# Altium footprint library DC3-2.54mm简牛贴片插座.PcbLib: 24 footprints (part 2 of 2)
Each footprint in its own frame and in the unit in brackets; x right, y up, seen from the top. Pads: shape width x height; smd on the part's side, far side on the other; paste and mask are expansions set on the pad; w line width, h text height; cw(c..) or ccw(c..) is an arc to the next point about the centre after c.
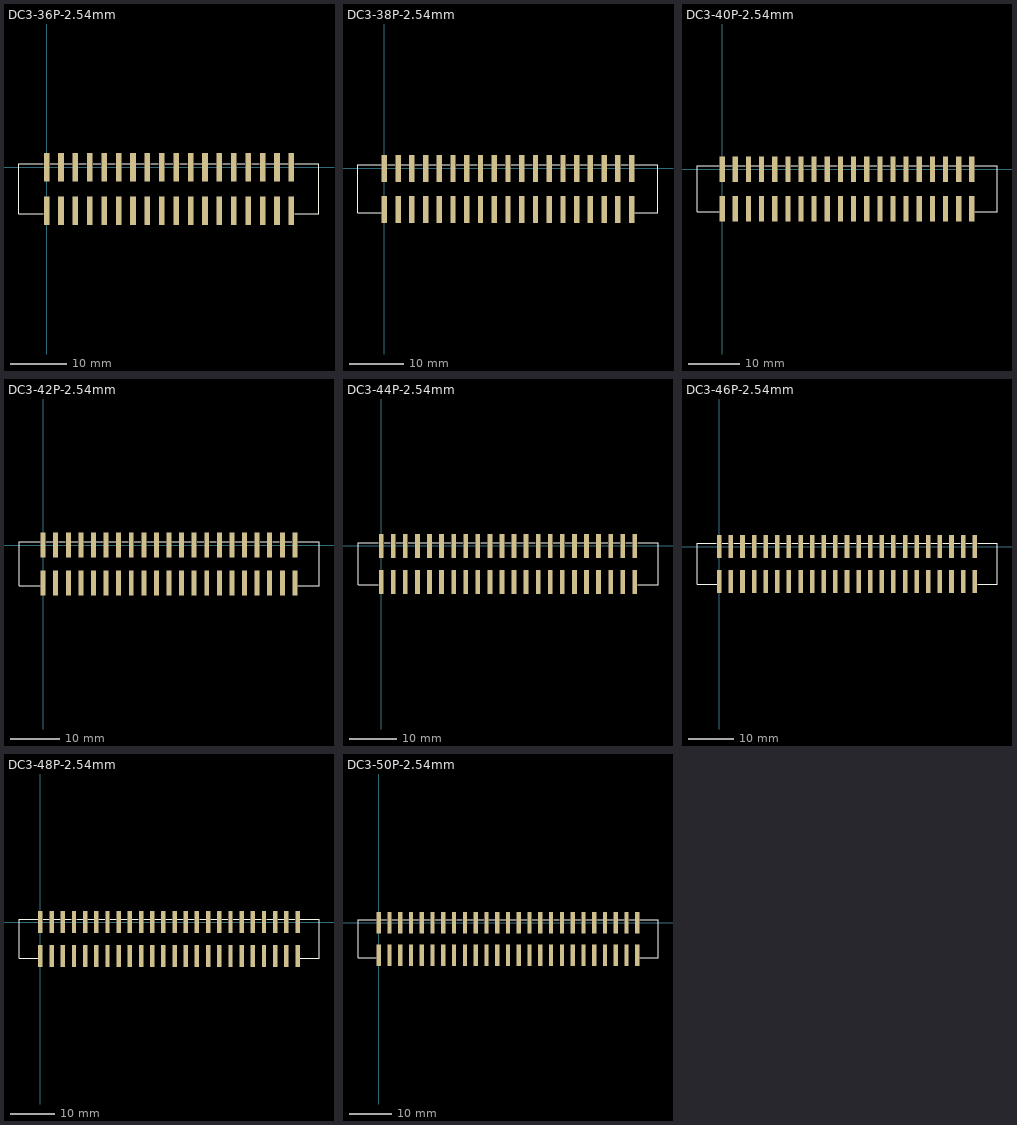
[diagram p1: the footprints below, top view; thin cyan lines are the x and y axes]

## DC3-36P-2.54mm [mm] "简牛贴片 2.54间距 （蒜米工坊）"
height 10.2
pads (36):
  rect 1x5 smd: 1(0,0) 2(0,-7.62) 3(2.54,0) 4(2.54,-7.62) 5(5.08,0) 6(5.08,-7.62) 7(7.62,0) 8(7.62,-7.62) 9(10.16,0) 10(10.16,-7.62) 11(12.7,0) 12(12.7,-7.62) 13(15.24,0) 14(15.24,-7.62) 15(17.78,0) 16(17.78,-7.62) 17(20.32,0) 18(20.32,-7.62) 19(22.86,0) 20(22.86,-7.62) 21(25.4,0) 22(25.4,-7.62) 23(27.94,0) 24(27.94,-7.62) 25(30.48,0) 25(43.18,0) 26(30.48,-7.62) 27(33.02,0) 28(33.02,-7.62) 29(35.56,0) 30(35.56,-7.62) 31(38.1,0) 32(38.1,-7.62) 33(40.64,0) 34(40.64,-7.62) 36(43.18,-7.62)
Top Overlay:
  lines w0.203: -0.61,0.68 -4.87,0.68 -4.87,-8.22 -0.584,-8.22 ; 0.61,0.686 1.956,0.686 ; 3.124,0.686 4.496,0.686 ; 5.664,0.686 7.036,0.686 ; 8.204,0.686 9.576,0.686 ; 10.744,0.686 12.116,0.686 ; 13.284,0.686 14.656,0.686 ; 15.824,0.686 17.196,0.686 ; 18.364,0.686 19.736,0.686 ; 20.904,0.686 22.276,0.686 ; 23.444,0.686 24.816,0.686 ; 25.984,0.686 27.356,0.686 ; 28.524,0.686 29.896,0.686 ; 31.064,0.686 32.436,0.686 ; 33.604,0.686 34.976,0.686 ; 36.144,0.686 37.516,0.686 ; 38.684,0.686 40.056,0.686 ; 41.224,0.686 42.596,0.686 ; 43.79,-8.22 48.05,-8.22 48.05,0.68 43.79,0.68
3D body "简牛贴片36.STEP": height 10, standoff 0, extent -4.819,-9.53 48.101,1.91

## DC3-38P-2.54mm [mm] "简牛贴片 2.54间距 （蒜米工坊）"
height 10.2
pads (38):
  rect 1x5 smd: 1(0,0) 2(0,-7.62) 3(2.54,0) 4(2.54,-7.62) 5(5.08,0) 6(5.08,-7.62) 7(7.62,0) 8(7.62,-7.62) 9(10.16,0) 10(10.16,-7.62) 11(12.7,0) 12(12.7,-7.62) 13(15.24,0) 14(15.24,-7.62) 15(17.78,0) 16(17.78,-7.62) 17(20.32,0) 18(20.32,-7.62) 19(22.86,0) 20(22.86,-7.62) 21(25.4,0) 22(25.4,-7.62) 23(27.94,0) 24(27.94,-7.62) 25(30.48,0) 25(43.18,0) 26(30.48,-7.62) 27(33.02,0) 28(33.02,-7.62) 29(35.56,0) 30(35.56,-7.62) 31(38.1,0) 32(38.1,-7.62) 33(40.64,0) 34(40.64,-7.62) 36(43.18,-7.62) 37(45.72,0) 38(45.72,-7.62)
Top Overlay:
  lines w0.203: -0.61,0.68 -4.87,0.68 -4.87,-8.22 -0.584,-8.22 ; 0.61,0.686 1.956,0.686 ; 3.124,0.686 4.496,0.686 ; 5.664,0.686 7.036,0.686 ; 8.204,0.686 9.576,0.686 ; 10.744,0.686 12.116,0.686 ; 13.284,0.686 14.656,0.686 ; 15.824,0.686 17.196,0.686 ; 18.364,0.686 19.736,0.686 ; 20.904,0.686 22.276,0.686 ; 23.444,0.686 24.816,0.686 ; 25.984,0.686 27.356,0.686 ; 28.524,0.686 29.896,0.686 ; 31.064,0.686 32.436,0.686 ; 33.604,0.686 34.976,0.686 ; 36.144,0.686 37.516,0.686 ; 38.684,0.686 40.056,0.686 ; 41.224,0.686 42.596,0.686 ; 43.764,0.686 45.136,0.686 ; 46.33,-8.22 50.59,-8.22 50.59,0.68 46.33,0.68
3D body "简牛贴片38.STEP": height 10, standoff 0, extent -4.921,-9.936 50.539,1.504

## DC3-40P-2.54mm [mm] "简牛贴片 2.54间距 （蒜米工坊）"
height 10.2
pads (40):
  rect 1x5 smd: 1(0,0) 2(0,-7.62) 3(2.54,0) 4(2.54,-7.62) 5(5.08,0) 6(5.08,-7.62) 7(7.62,0) 8(7.62,-7.62) 9(10.16,0) 10(10.16,-7.62) 11(12.7,0) 12(12.7,-7.62) 13(15.24,0) 14(15.24,-7.62) 15(17.78,0) 16(17.78,-7.62) 17(20.32,0) 18(20.32,-7.62) 19(22.86,0) 20(22.86,-7.62) 21(25.4,0) 22(25.4,-7.62) 23(27.94,0) 24(27.94,-7.62) 25(30.48,0) 25(43.18,0) 26(30.48,-7.62) 27(33.02,0) 28(33.02,-7.62) 29(35.56,0) 30(35.56,-7.62) 31(38.1,0) 32(38.1,-7.62) 33(40.64,0) 34(40.64,-7.62) 36(43.18,-7.62) 37(45.72,0) 38(45.72,-7.62) 39(48.26,0) 40(48.26,-7.62)
Top Overlay:
  lines w0.203: -0.61,0.68 -4.87,0.68 -4.87,-8.22 -0.584,-8.22 ; 0.61,0.686 1.956,0.686 ; 3.124,0.686 4.496,0.686 ; 5.664,0.686 7.036,0.686 ; 8.204,0.686 9.576,0.686 ; 10.744,0.686 12.116,0.686 ; 13.284,0.686 14.656,0.686 ; 15.824,0.686 17.196,0.686 ; 18.364,0.686 19.736,0.686 ; 20.904,0.686 22.276,0.686 ; 23.444,0.686 24.816,0.686 ; 25.984,0.686 27.356,0.686 ; 28.524,0.686 29.896,0.686 ; 31.064,0.686 32.436,0.686 ; 33.604,0.686 34.976,0.686 ; 36.144,0.686 37.516,0.686 ; 38.684,0.686 40.056,0.686 ; 41.224,0.686 42.596,0.686 ; 43.764,0.686 45.136,0.686 ; 46.304,0.686 47.676,0.686 ; 48.87,-8.22 53.13,-8.22 53.13,0.68 48.87,0.68
3D body "简牛贴片40.STEP": height 10, standoff 0, extent -4.87,-9.555 53.13,1.885

## DC3-42P-2.54mm [mm] "简牛贴片 2.54间距 （蒜米工坊）"
height 10.2
pads (42):
  rect 1x5 smd: 1(0,0) 2(0,-7.62) 3(2.54,0) 4(2.54,-7.62) 5(5.08,0) 6(5.08,-7.62) 7(7.62,0) 8(7.62,-7.62) 9(10.16,0) 10(10.16,-7.62) 11(12.7,0) 12(12.7,-7.62) 13(15.24,0) 14(15.24,-7.62) 15(17.78,0) 16(17.78,-7.62) 17(20.32,0) 18(20.32,-7.62) 19(22.86,0) 20(22.86,-7.62) 21(25.4,0) 22(25.4,-7.62) 23(27.94,0) 24(27.94,-7.62) 25(30.48,0) 25(43.18,0) 26(30.48,-7.62) 27(33.02,0) 28(33.02,-7.62) 29(35.56,0) 30(35.56,-7.62) 31(38.1,0) 32(38.1,-7.62) 33(40.64,0) 34(40.64,-7.62) 36(43.18,-7.62) 37(45.72,0) 38(45.72,-7.62) 39(48.26,0) 40(48.26,-7.62) 41(50.8,0) 42(50.8,-7.62)
Top Overlay:
  lines w0.203: -0.61,0.68 -4.87,0.68 -4.87,-8.22 -0.584,-8.22 ; 0.61,0.686 1.956,0.686 ; 3.124,0.686 4.496,0.686 ; 5.664,0.686 7.036,0.686 ; 8.204,0.686 9.576,0.686 ; 10.744,0.686 12.116,0.686 ; 13.284,0.686 14.656,0.686 ; 15.824,0.686 17.196,0.686 ; 18.364,0.686 19.736,0.686 ; 20.904,0.686 22.276,0.686 ; 23.444,0.686 24.816,0.686 ; 25.984,0.686 27.356,0.686 ; 28.524,0.686 29.896,0.686 ; 31.064,0.686 32.436,0.686 ; 33.604,0.686 34.976,0.686 ; 36.144,0.686 37.516,0.686 ; 38.684,0.686 40.056,0.686 ; 41.224,0.686 42.596,0.686 ; 43.764,0.686 45.136,0.686 ; 46.304,0.686 47.676,0.686 ; 48.844,0.686 50.216,0.686 ; 51.41,-8.22 55.67,-8.22 55.67,0.68 51.41,0.68
3D body "简牛贴片42.STEP": height 10, standoff 0, extent -4.845,-9.454 55.695,1.986

## DC3-44P-2.54mm [mm] "简牛贴片 2.54间距 （蒜米工坊）"
height 10.2
pads (44):
  rect 1x5 smd: 1(0,0) 2(0,-7.62) 3(2.54,0) 4(2.54,-7.62) 5(5.08,0) 6(5.08,-7.62) 7(7.62,0) 8(7.62,-7.62) 9(10.16,0) 10(10.16,-7.62) 11(12.7,0) 12(12.7,-7.62) 13(15.24,0) 14(15.24,-7.62) 15(17.78,0) 16(17.78,-7.62) 17(20.32,0) 18(20.32,-7.62) 19(22.86,0) 20(22.86,-7.62) 21(25.4,0) 22(25.4,-7.62) 23(27.94,0) 24(27.94,-7.62) 25(30.48,0) 25(43.18,0) 26(30.48,-7.62) 27(33.02,0) 28(33.02,-7.62) 29(35.56,0) 30(35.56,-7.62) 31(38.1,0) 32(38.1,-7.62) 33(40.64,0) 34(40.64,-7.62) 36(43.18,-7.62) 37(45.72,0) 38(45.72,-7.62) 39(48.26,0) 40(48.26,-7.62) 41(50.8,0) 42(50.8,-7.62) 43(53.34,0) 44(53.34,-7.62)
Top Overlay:
  lines w0.203: -0.61,0.68 -4.87,0.68 -4.87,-8.22 -0.584,-8.22 ; 0.61,0.686 1.956,0.686 ; 3.124,0.686 4.496,0.686 ; 5.664,0.686 7.036,0.686 ; 8.204,0.686 9.576,0.686 ; 10.744,0.686 12.116,0.686 ; 13.284,0.686 14.656,0.686 ; 15.824,0.686 17.196,0.686 ; 18.364,0.686 19.736,0.686 ; 20.904,0.686 22.276,0.686 ; 23.444,0.686 24.816,0.686 ; 25.984,0.686 27.356,0.686 ; 28.524,0.686 29.896,0.686 ; 31.064,0.686 32.436,0.686 ; 33.604,0.686 34.976,0.686 ; 36.144,0.686 37.516,0.686 ; 38.684,0.686 40.056,0.686 ; 41.224,0.686 42.596,0.686 ; 43.764,0.686 45.136,0.686 ; 46.304,0.686 47.676,0.686 ; 48.844,0.686 50.216,0.686 ; 51.384,0.686 52.756,0.686 ; 53.95,-8.22 58.21,-8.22 58.21,0.68 53.95,0.68
3D body "简牛贴片44.STEP": height 10, standoff 0, extent -4.844,-9.606 58.235,1.834

## DC3-46P-2.54mm [mm] "简牛贴片 2.54间距 （蒜米工坊）"
height 10.2
pads (46):
  rect 1x5 smd: 1(0,0) 2(0,-7.62) 3(2.54,0) 4(2.54,-7.62) 5(5.08,0) 6(5.08,-7.62) 7(7.62,0) 8(7.62,-7.62) 9(10.16,0) 10(10.16,-7.62) 11(12.7,0) 12(12.7,-7.62) 13(15.24,0) 14(15.24,-7.62) 15(17.78,0) 16(17.78,-7.62) 17(20.32,0) 18(20.32,-7.62) 19(22.86,0) 20(22.86,-7.62) 21(25.4,0) 22(25.4,-7.62) 23(27.94,0) 24(27.94,-7.62) 25(30.48,0) 25(43.18,0) 26(30.48,-7.62) 27(33.02,0) 28(33.02,-7.62) 29(35.56,0) 30(35.56,-7.62) 31(38.1,0) 32(38.1,-7.62) 33(40.64,0) 34(40.64,-7.62) 36(43.18,-7.62) 37(45.72,0) 38(45.72,-7.62) 39(48.26,0) 40(48.26,-7.62) 41(50.8,0) 42(50.8,-7.62) 43(53.34,0) 44(53.34,-7.62) 45(55.88,0) 46(55.88,-7.62)
Top Overlay:
  lines w0.203: -0.61,0.68 -4.87,0.68 -4.87,-8.22 -0.584,-8.22 ; 0.61,0.686 1.956,0.686 ; 3.124,0.686 4.496,0.686 ; 5.664,0.686 7.036,0.686 ; 8.204,0.686 9.576,0.686 ; 10.744,0.686 12.116,0.686 ; 13.284,0.686 14.656,0.686 ; 15.824,0.686 17.196,0.686 ; 18.364,0.686 19.736,0.686 ; 20.904,0.686 22.276,0.686 ; 23.444,0.686 24.816,0.686 ; 25.984,0.686 27.356,0.686 ; 28.524,0.686 29.896,0.686 ; 31.064,0.686 32.436,0.686 ; 33.604,0.686 34.976,0.686 ; 36.144,0.686 37.516,0.686 ; 38.684,0.686 40.056,0.686 ; 41.224,0.686 42.596,0.686 ; 43.764,0.686 45.136,0.686 ; 46.304,0.686 47.676,0.686 ; 48.844,0.686 50.216,0.686 ; 51.384,0.686 52.756,0.686 ; 53.924,0.686 55.296,0.686 ; 56.49,-8.22 60.75,-8.22 60.75,0.68 56.49,0.68
3D body "简牛贴片46.STEP": height 10, standoff 0, extent -4.845,-9.479 60.775,1.961

## DC3-48P-2.54mm [mm] "简牛贴片 2.54间距 （蒜米工坊）"
height 10.2
pads (48):
  rect 1x5 smd: 1(0,0) 2(0,-7.62) 3(2.54,0) 4(2.54,-7.62) 5(5.08,0) 6(5.08,-7.62) 7(7.62,0) 8(7.62,-7.62) 9(10.16,0) 10(10.16,-7.62) 11(12.7,0) 12(12.7,-7.62) 13(15.24,0) 14(15.24,-7.62) 15(17.78,0) 16(17.78,-7.62) 17(20.32,0) 18(20.32,-7.62) 19(22.86,0) 20(22.86,-7.62) 21(25.4,0) 22(25.4,-7.62) 23(27.94,0) 24(27.94,-7.62) 25(30.48,0) 25(43.18,0) 26(30.48,-7.62) 27(33.02,0) 28(33.02,-7.62) 29(35.56,0) 30(35.56,-7.62) 31(38.1,0) 32(38.1,-7.62) 33(40.64,0) 34(40.64,-7.62) 36(43.18,-7.62) 37(45.72,0) 38(45.72,-7.62) 39(48.26,0) 40(48.26,-7.62) 41(50.8,0) 42(50.8,-7.62) 43(53.34,0) 44(53.34,-7.62) 45(55.88,0) 46(55.88,-7.62) 47(58.42,0) 48(58.42,-7.62)
Top Overlay:
  lines w0.203: -0.61,0.68 -4.87,0.68 -4.87,-8.22 -0.584,-8.22 ; 0.61,0.686 1.956,0.686 ; 3.124,0.686 4.496,0.686 ; 5.664,0.686 7.036,0.686 ; 8.204,0.686 9.576,0.686 ; 10.744,0.686 12.116,0.686 ; 13.284,0.686 14.656,0.686 ; 15.824,0.686 17.196,0.686 ; 18.364,0.686 19.736,0.686 ; 20.904,0.686 22.276,0.686 ; 23.444,0.686 24.816,0.686 ; 25.984,0.686 27.356,0.686 ; 28.524,0.686 29.896,0.686 ; 31.064,0.686 32.436,0.686 ; 33.604,0.686 34.976,0.686 ; 36.144,0.686 37.516,0.686 ; 38.684,0.686 40.056,0.686 ; 41.224,0.686 42.596,0.686 ; 43.764,0.686 45.136,0.686 ; 46.304,0.686 47.676,0.686 ; 48.844,0.686 50.216,0.686 ; 51.384,0.686 52.756,0.686 ; 53.924,0.686 55.296,0.686 ; 56.464,0.686 57.836,0.686 ; 59.03,-8.22 63.29,-8.22 63.29,0.68 59.03,0.68
3D body "简牛贴片48.STEP": height 10, standoff 0, extent -4.87,-9.555 63.29,1.885

## DC3-50P-2.54mm [mm] "简牛贴片 2.54间距 （蒜米工坊）"
height 10.2
pads (50):
  rect 1x5 smd: 1(0,0) 2(0,-7.62) 3(2.54,0) 4(2.54,-7.62) 5(5.08,0) 6(5.08,-7.62) 7(7.62,0) 8(7.62,-7.62) 9(10.16,0) 10(10.16,-7.62) 11(12.7,0) 12(12.7,-7.62) 13(15.24,0) 14(15.24,-7.62) 15(17.78,0) 16(17.78,-7.62) 17(20.32,0) 18(20.32,-7.62) 19(22.86,0) 20(22.86,-7.62) 21(25.4,0) 22(25.4,-7.62) 23(27.94,0) 24(27.94,-7.62) 25(30.48,0) 25(43.18,0) 26(30.48,-7.62) 27(33.02,0) 28(33.02,-7.62) 29(35.56,0) 30(35.56,-7.62) 31(38.1,0) 32(38.1,-7.62) 33(40.64,0) 34(40.64,-7.62) 36(43.18,-7.62) 37(45.72,0) 38(45.72,-7.62) 39(48.26,0) 40(48.26,-7.62) 41(50.8,0) 42(50.8,-7.62) 43(53.34,0) 44(53.34,-7.62) 45(55.88,0) 46(55.88,-7.62) 47(58.42,0) 48(58.42,-7.62) 49(60.96,0) 50(60.96,-7.62)
Top Overlay:
  lines w0.203: -0.61,0.68 -4.87,0.68 -4.87,-8.22 -0.584,-8.22 ; 0.61,0.686 1.956,0.686 ; 3.124,0.686 4.496,0.686 ; 5.664,0.686 7.036,0.686 ; 8.204,0.686 9.576,0.686 ; 10.744,0.686 12.116,0.686 ; 13.284,0.686 14.656,0.686 ; 15.824,0.686 17.196,0.686 ; 18.364,0.686 19.736,0.686 ; 20.904,0.686 22.276,0.686 ; 23.444,0.686 24.816,0.686 ; 25.984,0.686 27.356,0.686 ; 28.524,0.686 29.896,0.686 ; 31.064,0.686 32.436,0.686 ; 33.604,0.686 34.976,0.686 ; 36.144,0.686 37.516,0.686 ; 38.684,0.686 40.056,0.686 ; 41.224,0.686 42.596,0.686 ; 43.764,0.686 45.136,0.686 ; 46.304,0.686 47.676,0.686 ; 48.844,0.686 50.216,0.686 ; 51.384,0.686 52.756,0.686 ; 53.924,0.686 55.296,0.686 ; 56.464,0.686 57.836,0.686 ; 59.004,0.686 60.376,0.686 ; 61.57,-8.22 65.83,-8.22 65.83,0.68 61.57,0.68
3D body "简牛贴片50.STEP": height 10, standoff 0, extent -4.87,-9.479 65.83,1.961